# EAGLE library part ATECC608A-MAHDA-S (library SamacSys_Parts)
Cryptoathentication ECC608A UDFN Source: Datasheet <http://ww1.microchip.com/downloads/en/DeviceDoc/40001977A.pdf>
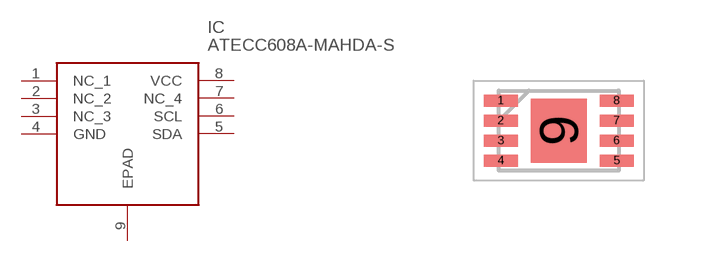
[diagram p51: symbol with the pads of SON50P300X200X60-9N; footprint SON50P300X200X60-9N]

Designator prefix IC

## ATECC608A-MAHDA-S (DESCRIPTION: Cryptoathentication ECC608A UDFN; HEIGHT: 0.6mm; MANUFACTURER_NAME: Microchip; MANUFACTURER_PART_NUMBER: ATECC608A-MAHDA-S; MOUSER_PART_NUMBER: 556-ATECC608AMAHDAS; MOUSER_PRICE-STOCK: https://www.mouser.co.uk/ProductDetail/Microchip-Technology/ATECC608A-MAHDA-S?qs=wd5RIQLrsJiEtiN0AJ9bzg%3D%3D)  [SON50P300X200X60-9N]
1  NC_1
2  NC_2
3  NC_3
4  GND
5  SDA
6  SCL
7  NC_4
8  VCC
9  EPAD

## Footprint SON50P300X200X60-9N (pad centres in mm)
8-Lead Plastic DFN (MN)
smd 0.85 x 0.3: 1 -1.45,0.75; 2 -1.45,0.25; 3 -1.45,-0.25; 4 -1.45,-0.75; 5 1.45,-0.75; 6 1.45,-0.25; 7 1.45,0.25; 8 1.45,0.75
smd 1.4 x 1.6: 9 0,0